# EAGLE library part MA06-1 (library EYR_Conectores)
PIN HEADER
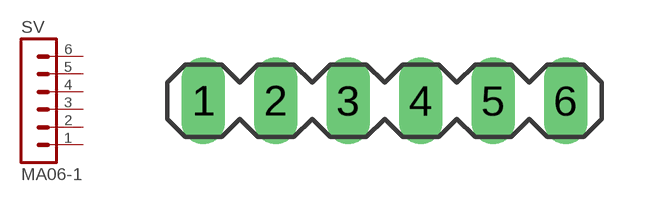
[diagram p9: symbol with the pads of MA06-1; footprint MA06-1]

Designator prefix SV

## MA06-1 (OC_FARNELL: unknown; OC_NEWARK: unknown)  [MA06-1]
1  1  pas
2  2  pas
3  3  pas
4  4  pas
5  5  pas
6  6  pas

## Footprint MA06-1 (pad centres in mm)
PIN HEADER
drill 1.016 long: 1 -6.35,0; 2 -3.81,0; 3 -1.27,0; 4 1.27,0; 5 3.81,0; 6 6.35,0